# Altium schematic symbol library Motion Sensor.SchLib: 6 symbols
Pins are listed as number, name and electrical type; pins without a type are passive.

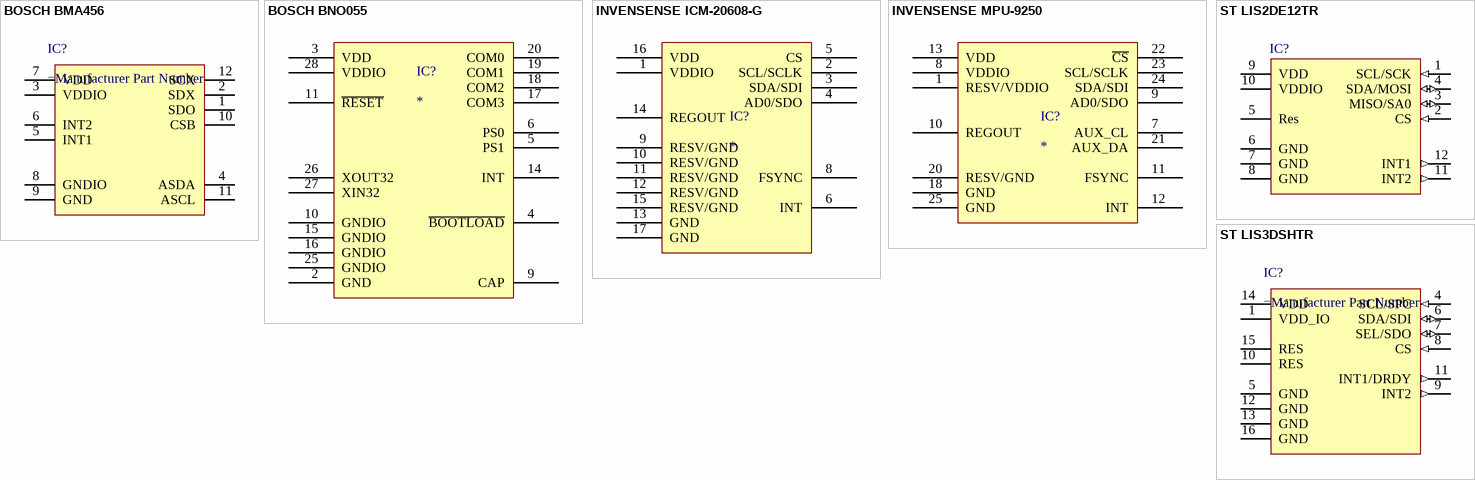
[diagram p0: symbols BOSCH BMA456 to ST LIS3DSHTR]

## BOSCH BMA456
designator IC?
16 bit, digital, triaxial acceleration sensor with intelligent on-chip motion-triggered interrupt features optimized for wearable applications.
footprint BOSCH LGA-12 2x2 mm
pins: 1 SDO, 2 SDX, 3 VDDIO, 4 ASDA, 5 INT1, 6 INT2, 7 VDD, 8 GNDIO, 9 GND, 10 CSB, 11 ASCL, 12 SCX

## BOSCH BNO055
designator IC?
pins: 2 GND, 3 VDD, 4 ~{BOOTL}~{OAD}, 5 PS1, 6 PS0, 9 CAP, 10 GNDIO, 11 ~{RESET}, 14 INT, 15 GNDIO, 16 GNDIO, 17 COM3, 18 COM2, 19 COM1, 20 COM0, 25 GNDIO, 26 XOUT32, 27 XIN32, 28 VDDIO

## INVENSENSE ICM-20608-G
designator IC?
pins: 1 VDDIO, 2 SCL/SCLK, 3 SDA/SDI, 4 AD0/SDO, 5 CS, 6 INT, 8 FSYNC, 9 RESV/GND, 10 RESV/GND, 11 RESV/GND, 12 RESV/GND, 13 GND, 14 REGOUT, 15 RESV/GND, 16 VDD, 17 GND

## INVENSENSE MPU-9250
designator IC?
pins: 1 RESV/VDDIO, 7 AUX_CL, 8 VDDIO, 9 AD0/SDO, 10 REGOUT, 11 FSYNC, 12 INT, 13 VDD, 18 GND, 20 RESV/GND, 21 AUX_DA, 22 ~{CS}, 23 SCL/SCLK, 24 SDA/SDI, 25 GND

## ST LIS2DE12TR
designator IC?
MEMS digital output motion sensor:  ultra-low-power high-performance 3-axis "femto" accelerometer
footprint ST LGA-12 2x2x0.7 (LGA-12 2.0 x 2.0 x 0.7 mm)
pins: 1 SCL/SCK (in) "I2C serial clock (SCL)  SPI serial port clock (SPC)erial data output (SDO)", 2 CS (in) "SPI enable  I2C/SPI mode selection:  1: SPI idle mode / I2C communication enabled  0: SPI communication mode / I2C disabled", 3 MISO/SA0 (io) "SPI enable  I2C/SPI mode selection:  1: SPI idle mode / I2C communication enabled  0: SPI communication mode / I2C disabled", 4 SDA/MOSI (io) "I2C serial data (SDA)  SPI serial data input (SDI)  3-wire interface serial data output (SDO)", 5 Res "Connect to GND", 6 GND (power), 7 GND (power), 8 GND (power), 9 VDD (power) "Power supply", 10 VDDIO (power) "Power supply for I/O pins", 11 INT2 (out) "Interrupt pin 2", 12 INT1 (out) "Interrupt pin 1"

## ST LIS3DSHTR
designator IC?
The LIS3DHH is an ultra-high-resolution and lownoise three-axis linear accelerometer.
footprint ST LGA-16 5x5mm
pins: 1 VDD_IO (power), 4 SCL/SPC (in), 5 GND (power), 6 SDA/SDI (io), 7 SEL/SDO (io), 8 CS (in), 9 INT2 (out), 10 RES (power), 11 INT1/DRDY (out), 12 GND (power), 13 GND (power), 14 VDD (power), 15 RES (power), 16 GND (power)